# EAGLE library part LOGIC,DELAYLINE,SERIAL1 (library QuantumOptics)
Programmable delay line, e.g. 3D3428x-x.xx Data Delay inc
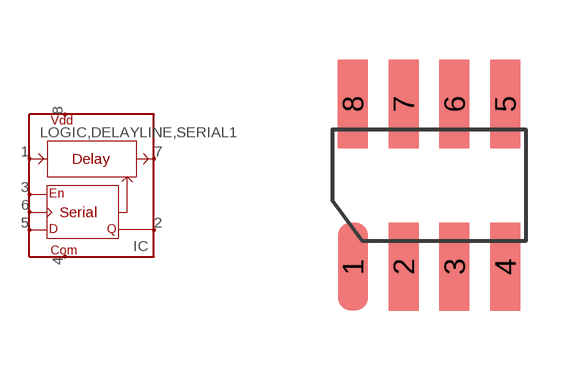
[diagram p109: symbol with the pads of SOIC-8; footprint SOIC-8]

Designator prefix IC

## LOGIC,DELAYLINE,SERIAL1Z- (MFG: Data Delay Inc.)  [SOIC-8]
1  IN  in
2  SO  out
3  AE  in
4  COM
5  SI  in
6  SC  in
7  OUT  out
8  VCC

## Footprint SOIC-8 (pad centres in mm)
SOIC-8 (AKA SO-8), pads on 0.050" grid.
smd 0.75 x 2.2: 1 -1.905,-2.032; 2 -0.635,-2.032; 3 0.635,-2.032; 4 1.905,-2.032; 5 1.905,2.032; 6 0.635,2.032; 7 -0.635,2.032; 8 -1.905,2.032